# Altium schematic symbol library MiniWS.SchLib: 24 symbols
Pins are listed as number, name and electrical type; pins without a type are passive.

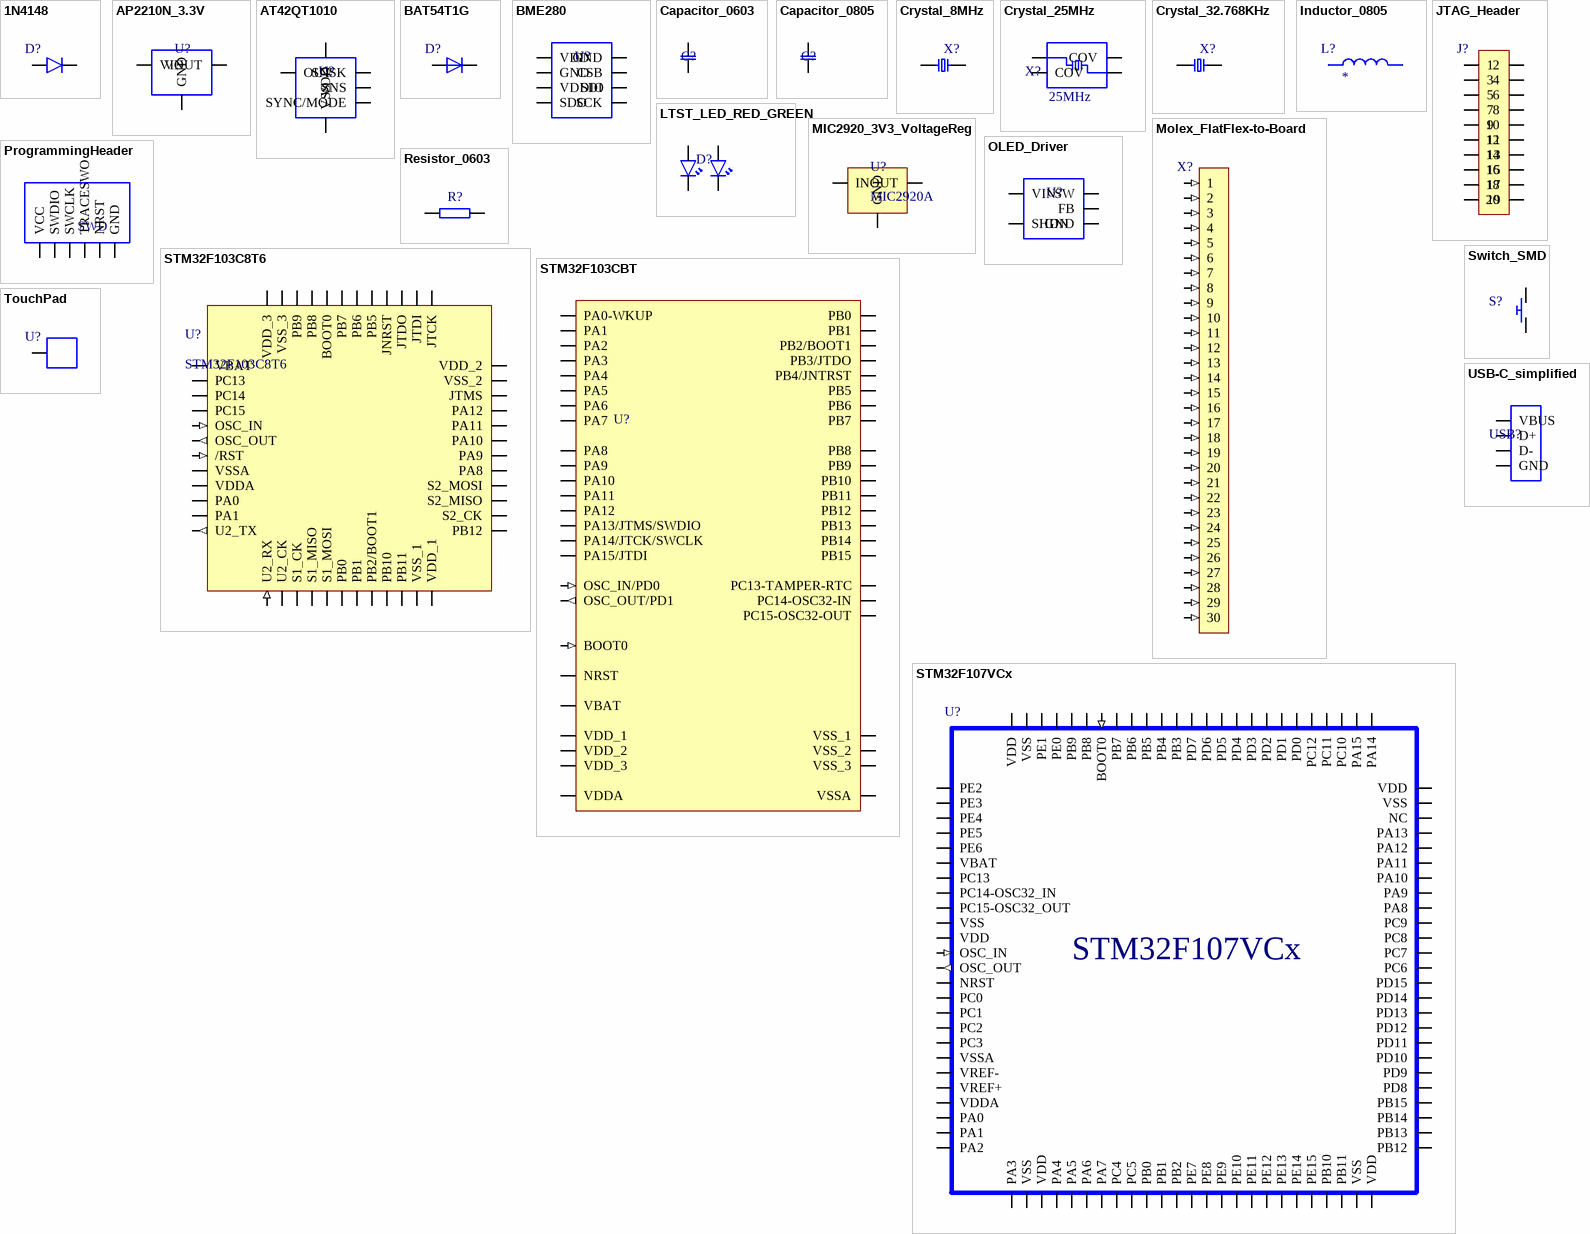
[diagram p0: symbols 1N4148 to USB-C_simplified]

## 1N4148
designator D?
ComponentLink1Description: Datasheet; ComponentLink1URL: https://www.onsemi.com/pub/Collateral/1N914BWS-D.pdf; ComponentLink2Description: 1N4148WS - Digikey; ComponentLink2URL: https://www.digikey.ch/products/de?keywords=1N4148WSFSCT-ND
footprint 1N4148_SODFL127P600-8N
pins: 1, 2

## AP2210N_3.3V
designator U?
footprint AP2210N_3.3V_SOT23127P600-8N
pins: 1 GND, 2 VOUT, 3 VIN

## AT42QT1010
designator U?
ComponentLink1Description: Datasheet; ComponentLink1URL: http://ww1.microchip.com/downloads/en/DeviceDoc/40001946A.pdf; ComponentLink2Description: SOT23 AT42QT1010 - Digikey; ComponentLink2URL: https://www.digikey.ch/product-detail/de/microchip-technology/AT42QT1010-TSHR/AT42QT1010-TSHRCT-ND/2268871
footprint AT42QT1010_SOT23127P600-8N
pins: 1 OUT, 2 VSS, 3 SNSK, 4 SNS, 5 VDD, 6 SYNC/MODE

## BAT54T1G
designator D?
ComponentLink1Description: BAT54T1G - Digikey; ComponentLink1URL: https://www.digikey.ch/product-detail/de/on-semiconductor/BAT54T1G/BAT54T1GOSCT-ND/917813; ComponentLink2Description: Datasheet; ComponentLink2URL: https://www.onsemi.com/pub/Collateral/BAT54T1-D.PDF
footprint BAT54T1G_SODFL371X135-2N (SODFL, 2-Leads, Body 1.60x3.71mm, IPC Medium Density)
pins: 1, 2

## BME280
designator U?
BOSCH BME280 Sensor; ComponentLink1Description: Datasheet; ComponentLink1URL: https://ae-bst.resource.bosch.com/media/_tech/media/datasheets/BST-BME280-DS002.pdf; ComponentLink2Description: Handling Instructions; ComponentLink2URL: https://ae-bst.resource.bosch.com/media/_tech/media/application_notes/BST-BME280-HS006.pdf; ComponentLink3Description: BME280 - Digikey; ComponentLink3URL: https://www.digikey.ch/products/de?keywords=828-1063-1-ND; Supplier: Digikey; Link - Digikey: https://www.digikey.ch/products/de?keywords=828-1063-1-ND
footprint BME280_Bosch
pins: 1 GND, 2 CSB, 3 SDI, 4 SCK, 5 SDO, 6 VDDIO, 7 GND, 8 VDD

## Capacitor_0603
designator C?
footprint C_0603_Chip2PinSM127P600-8N
pins: 1, 2

## Capacitor_0805
designator C?
footprint 10uF_0805_Chip2PinSM127P600-8N
footprint 1uF_0805_Chip2PinSM127P600-8N
pins: 1, 2

## Crystal_8MHz
designator X?
8MHz Crystall SMD; ComponentLink1Description: Datasheet; ComponentLink1URL: https://ecsxtal.com/store/pdf/ecx-53r.pdf; ComponentLink2Description: ECS-.327-6-34QCN-TR - Digikey; ComponentLink2URL: https://www.digikey.ch/product-detail/de/ecs-inc/ECS-80-18-30-JGN-TR/XC2103CT-ND/5875587
footprint Crystal_8MHz
pins: 1, 2

## Crystal_25MHz
designator X?  Frequency: 25MHz
25MHz Crystal Unit EPSON; ComponentLink1Description: Datasheet; ComponentLink1URL: https://support.epson.biz/td/api/doc_check.php?dl=brief_TSX-3225&lang=en; ComponentLink2Description: TSX-3225 - Digikey; ComponentLink2URL: https://www.digikey.ch/products/de?keywords=SER4211CT-ND
footprint Crystal_25MHz
pins: 1 QZ, 2 COV, 3 QZ, 4 COV

## Crystal_32.768KHz
designator X?
32.768KHz Crystal, SMD; ComponentLink1Description: Datasheet; ComponentLink1URL: https://ecsxtal.com/store/pdf/ECX-34Q.pdf; ComponentLink2Description: ECS-.327-6-34QCN-TR - Digikey; ComponentLink2URL: https://www.digikey.ch/products/de?keywords=XC3040CT-ND
footprint Crystal_32.768KHz
pins: 1, 2

## Inductor_0805
designator L?
Inductance: *
footprint 0805_INDC2012X12N (Chip Inductor, 2-Leads, Body 2.00x1.25mm, IPC Medium Density)
pins: 1, 2

## JTAG_Header
designator J?
footprint JTAG_Header
pins: 1, 2, 3, 4, 5, 6, 7, 8, 9, 10, 11, 12, 13, 14, 15, 16, 17, 18, 19, 20

## LTST_LED_RED_GREEN
designator D?
footprint LTST_LED_GREEN_RED
pins: 1, 2, 3, 4

## MIC2920_3V3_VoltageReg
designator U?, comment MIC2920A
ComponentLink1Description: Datasheet; ComponentLink1URL: http://ww1.microchip.com/downloads/en/DeviceDoc/mic2920.pdf; ComponentLink2Description: MIC2920A-3.3WS-TR - Digikey; ComponentLink2URL: https://www.digikey.ch/product-detail/de/microchip-technology/MIC2920A-3.3WS-TR/576-1116-1-ND/771849
footprint MIC2920A_SOT230P710X170-4N (SOT223, 4-Leads, Body 6.50x7.10mm (avg), Pitch 2.30mm, IPC Medium Density)
pins: 1 IN, 2 GND, 3 OUT

## Molex_FlatFlex-to-Board
designator X?
ComponentLink1Description: Datasheet; ComponentLink1URL: https://www.molex.com/pdm_docs/sd/5051103091_sd.pdf
footprint MOLEX_FTB_30
pins: 1 (in), 2 (in), 3 (in), 4 (in), 5 (in), 6 (in), 7 (in), 8 (in), 9 (in), 10 (in), 11 (in), 12 (in), 13 (in), 14 (in), 15 (in), 16 (in), 17 (in), 18 (in), 19 (in), 20 (in), 21 (in), 22 (in), 23 (in), 24 (in), 25 (in), 26 (in), 27 (in), 28 (in), 29 (in), 30 (in)

## OLED_Driver
designator U?  (value not drawn)
footprint FAN5331S_SOT23127P600-8N
pins: 1 SW, 2 GND, 3 FB, 4 SHDN, 5 VIN

## ProgrammingHeader
designator SWD
footprint ProgrammingHeader
pins: 1 VCC, 2 SWDIO, 3 SWCLK, 4 TRACESWO, 5 NRST, 6 GND

## Resistor_0603
designator R?
footprint R_0603_Chip2PinSM127P600-8N
pins: 1, 2

## STM32F103C8T6
designator U?
footprint STM32F103CBT_LQFP48
pins: 1 VBAT, 2 PC13 (io), 3 PC14 (io), 4 PC15 (io), 5 OSC_IN (in), 6 OSC_OUT (out), 7 /RST (in), 8 VSSA, 9 VDDA, 10 PA0 (io), 11 PA1 (io), 12 U2_TX (out), 13 U2_RX (in), 14 U2_CK (io), 15 S1_CK, 16 S1_MISO, 17 S1_MOSI, 18 PB0, 19 PB1, 20 PB2/BOOT1, 21 PB10 (io), 22 PB11, 23 VSS_1, 24 VDD_1, 25 PB12 (io), 26 S2_CK, 27 S2_MISO, 28 S2_MOSI (io), 29 PA8 (io), 30 PA9 (io), 31 PA10 (io), 32 PA11 (io), 33 PA12 (io), 34 JTMS (io), 35 VSS_2, 36 VDD_2, 37 JTCK (io), 38 JTDI (io), 39 JTDO (io), 40 JNRST (io), 41 PB5 (io), 42 PB6 (io), 43 PB7 (io), 44 BOOT0 (io), 45 PB8 (io), 46 PB9 (io), 47 VSS_3, 48 VDD_3

## STM32F103CBT
designator U?
ComponentLink1Description: Datasheet; ComponentLink1URL: https://www.st.com/resource/en/datasheet/stm32f103cb.pdf; ComponentLink2Description: Reference Manual; ComponentLink2URL: https://www.st.com/content/ccc/resource/technical/document/reference_manual/59/b9/ba/7f/11/af/43/d5/CD00171190.pdf/files/CD00171190.pdf/jcr:content/translations/en.CD00171190.pdf
footprint STM32F103CBT_LQFP48
pins: 1 VBAT, 2 PC13-TAMPER-RTC (io), 3 PC14-OSC32-IN (io), 4 PC15-OSC32-OUT (io), 5 OSC_IN/PD0 (in), 6 OSC_OUT/PD1 (out), 7 NRST (io), 8 VSSA, 9 VDDA, 10 PA0-WKUP (io), 11 PA1 (io), 12 PA2 (io), 13 PA3 (io), 14 PA4 (io), 15 PA5 (io), 16 PA6 (io), 17 PA7 (io), 18 PB0 (io), 19 PB1 (io), 20 PB2/BOOT1 (io), 21 PB10 (io), 22 PB11 (io), 23 VSS_1, 24 VDD_1, 25 PB12 (io), 26 PB13 (io), 27 PB14 (io), 28 PB15 (io), 29 PA8 (io), 30 PA9 (io), 31 PA10 (io), 32 PA11 (io), 33 PA12 (io), 34 PA13/JTMS/SWDIO (io), 35 VSS_2, 36 VDD_2, 37 PA14/JTCK/SWCLK (io), 38 PA15/JTDI (io), 39 PB3/JTDO (io), 40 PB4/JNTRST (io), 41 PB5 (io), 42 PB6 (io), 43 PB7 (io), 44 BOOT0 (in), 45 PB8 (io), 46 PB9 (io), 47 VSS_3, 48 VDD_3

## STM32F107VCx
designator U?  Unit: STM32F107VCx
STM32F107VC Microcontroller; ComponentLink1Description: Datasheet; ComponentLink1URL: https://www.st.com/content/ccc/resource/technical/document/datasheet/e4/f3/1a/89/5a/02/46/ae/CD00220364.pdf/files/CD00220364.pdf/jcr:content/translations/en.CD00220364.pdf; ComponentLink2Description: Reference Manual; ComponentLink2URL: https://www.st.com/content/ccc/resource/technical/document/reference_manual/59/b9/ba/7f/11/af/43/d5/CD00171190.pdf/files/CD00171190.pdf/jcr:content/translations/en.CD00171190.pdf; ComponentLink3Description: STM32F107VCH6 - Digikey; ComponentLink3URL: https://www.digikey.ch/products/de?keywords=497-11549-ND
footprint STM32F107VCH_BGA100C80P10X10_1000X1000X170 (BGA, 100-Leads, Body 10.00x10.00mmx1.70mm, Pitch 0.80mm)
pins: A1 PC14-OSC32_IN (io), A2 PC13 (io), A3 PE2 (io), A4 PB9 (io), A5 PB7 (io), A6 PB4 (io), A7 PB3 (io), A8 PA15 (io), A9 PA14 (io), A10 PA13 (io), B1 PC15-OSC32_OUT (io), B2 VBAT (power), B3 PE3 (io), B4 PB8 (io), B5 PB6 (io), B6 PD5 (io), B7 PD2 (io), B8 PC11 (io), B9 PC10 (io), B10 PA12 (io), C1 OSC_IN (in), C2 VSS (power), C3 PE4 (io), C4 PE1 (io), C5 PB5 (io), C6 PD6 (io), C7 PD3 (io), C8 PC12 (io), C9 PA9 (io), C10 PA11 (io), D1 OSC_OUT (out), D2 VDD (power), D3 PE5 (io), D4 PE0 (io), D5 BOOT0 (in), D6 PD7 (io), D7 PD4 (io), D8 PD0 (io), D9 PA8 (io), D10 PA10 (io), E1 NRST (io), E2 PC2 (io), E3 PE6 (io), E4 VSS (power), E5 VSS (power), E6 VSS (power), E7 VSS (power), E8 PD1 (io), E9 PC9 (io), E10 PC7 (io), F1 PC0 (io), F2 PC1 (io), F3 PC3 (io), F4 VDD (power), F5 VDD (power), F6 VDD (power), F7 VDD (power), F8 NC, F9 PC8 (io), F10 PC6 (io), G1 VSSA (power), G2 PA0 (io), G3 PA4 (io), G4 PC4 (io), G5 PB2 (io), G6 PE10 (io), G7 PE14 (io), G8 PB15 (io), G9 PD11 (io), G10 PD15 (io), H1 VREF- (power), H2 PA1 (io), H3 PA5 (io), H4 PC5 (io), H5 PE7 (io), H6 PE11 (io), H7 PE15 (io), H8 PB14 (io), H9 PD10 (io), H10 PD14 (io), J1 VREF+ (power), J2 PA2 (io), J3 PA6 (io), J4 PB0 (io), J5 PE8 (io), J6 PE12 (io), J7 PB10 (io), J8 PB13 (io), J9 PD9 (io), J10 PD13 (io), K1 VDDA (power), K2 PA3 (io), K3 PA7 (io), K4 PB1 (io), K5 PE9 (io), K6 PE13 (io), K7 PB11 (io), K8 PB12 (io), K9 PD8 (io), K10 PD12 (io)

## Switch_SMD
designator S?
ComponentLink1Description: Datasheet; ComponentLink1URL: https://omronfs.omron.com/en_US/ecb/products/pdf/en-b3fs.pdf; ComponentLink2Description: B3FS-1000P - Digikey; ComponentLink2URL: https://www.digikey.ch/product-detail/de/omron-electronics-inc-emc-div/B3FS-1000P/SW423CT-ND/277814
footprint Switch_SMD
pins: 1, 2, 3, 4

## TouchPad
designator U?
footprint TouchPad
pins: 1

## USB-C_simplified
designator USB?
USB Type C receptacle simplified with just data and supply pins; ComponentLink1Description: Datasheet (Drawing); ComponentLink1URL: https://www.amphenol-icc.com/media/wysiwyg/files/drawing/12401610e4x2a.pdf; ComponentLink2Description: USB - C, USB 3.1 Gen 2 - Digikey; ComponentLink2URL: https://www.digikey.ch/product-detail/de/amphenol-icc-commercial-products/12401610E4-2A/12401610E4-2ACT-ND/5775520
footprint USB-C_receptacle
pins: A1 GND, A4 VBUS, A6 D+, A7 D-, A9 VBUS, A12 GND, B1 GND, B4 VBUS, B6 D+, B7 D-, B9 VBUS, B12 GND